# Altium footprint library Sheye-Resistor.PcbLib: 55 footprints (part 1 of 4)
Each footprint in its own frame and in the unit in brackets; x right, y up, seen from the top. Pads: shape width x height; smd on the part's side, far side on the other; paste and mask are expansions set on the pad; w line width, h text height; cw(c..) or ccw(c..) is an arc to the next point about the centre after c.
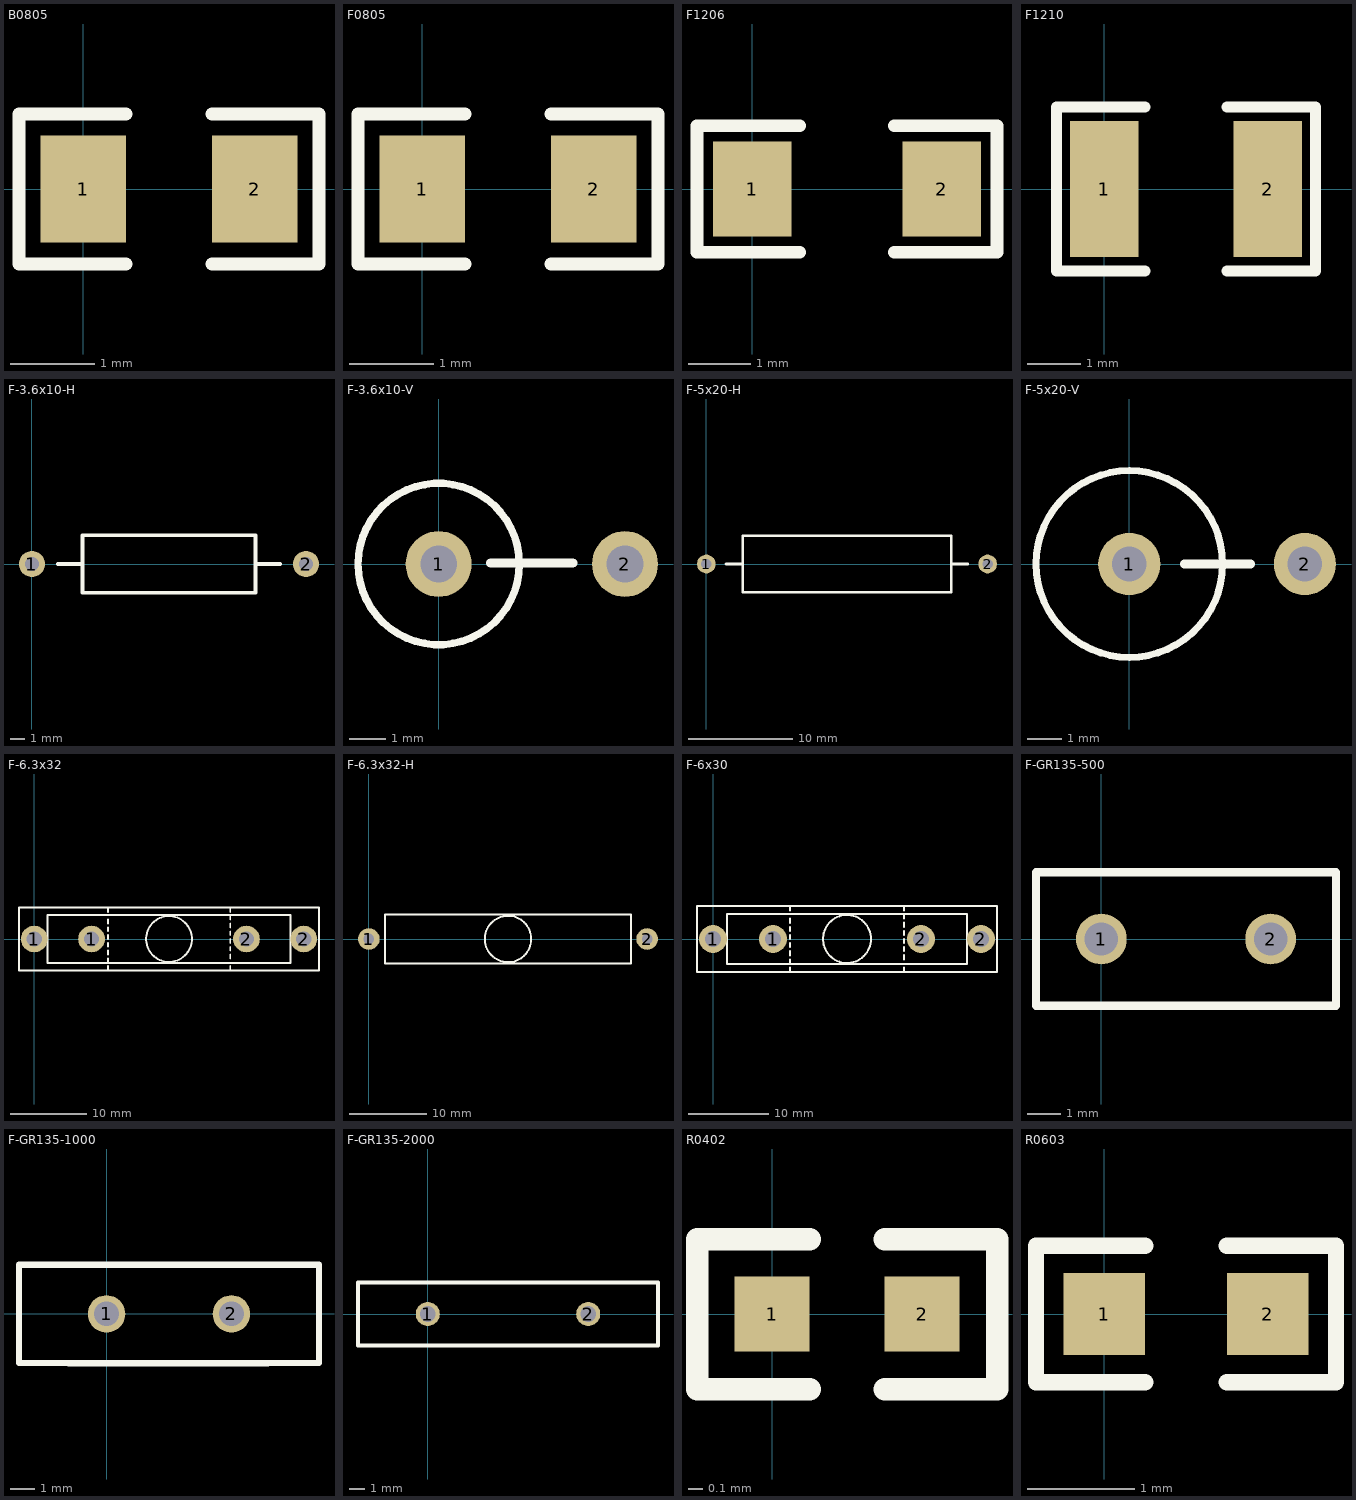
[diagram p0: the footprints below, top view; thin cyan lines are the x and y axes]

## B0805 [mil]
height 15
pads (2):
  rect 40x50 smd: 1(0,0) 2(80,0)
Top Overlay:
  lines w6: 20,-35 -30,-35 -30,35 20,35 ; 60,-35 110,-35 110,35 60,35
3D body: height 21.65, standoff 0, extent 0.63,-25 79.37,24.61

## F0805 [mil]
height 15
pads (2):
  rect 40x50 smd: 1(0,0) 2(80,0)
Top Overlay:
  lines w6: 20,-35 -30,-35 -30,35 20,35 ; 60,-35 110,-35 110,35 60,35
3D body: height 24.41, standoff -0.79, extent 0.24,-25.79 79.76,25

## F1206 [mil]
pads (2):
  rect 50x60 smd: 1(0,0) 2(120,0)
Top Overlay:
  lines w8: 30,-40 -35,-40 -35,40 30,40 ; 90,-40 155,-40 155,40 90,40
3D body: height 21.65, standoff 0, extent -2.99,-31 122.99,31.99

## F1210 [mil]
height 20
pads (2):
  rect 50x100 smd: 1(0,0) 2(120,0)
Top Overlay:
  lines w8: 30,-60 -35,-60 -35,60 30,60 ; 90,-60 155,-60 155,60 90,60
3D body: height 26.57, standoff 0, extent -2.99,-48.43 123.58,52.95

## F-3.6x10-H [mm]
pads (2):
  round 1.8 hole 1: 1(0,0) 2(19,0)
Top Overlay:
  lines w0.254: 1.803,0 3.429,0 ; 15.57,0 17.196,0 ; 3.5,-2 3.5,2 15.5,2 15.5,-2 3.5,-2
3D body: height 2, standoff 0, extent -0.324,-0.294 0.273,0.305
3D body: height 2, standoff 0, extent 18.726,-0.294 19.323,0.305
3D body: height 3.79, standoff 0.2, extent 4.449,-1.789 14.449,1.803
3D body: height 2.3, standoff 1.7, extent -0.323,-0.294 4.477,0.305
3D body: height 2.3, standoff 1.7, extent 14.416,-0.294 19.316,0.305

## F-3.6x10-V [mm]
pads (2):
  round 1.8 hole 1: 1(0,0) 2(5.08,0)
Top Overlay:
  circle w0.203: c0,0 r2.2
  lines w0.254: 1.422,0.025 3.658,0.025
3D body: height 15.2, standoff 0, extent 4.775,-0.299 5.373,0.299
3D body: height 15.5, standoff 14.9, extent -0.29,-0.305 5.38,0.294
3D body: height 15.2, standoff 12, extent -0.293,-0.299 0.305,0.299
3D body: height 12, standoff 0, extent -2.003,-1.971 1.981,2.021

## F-5x20-H [mm]
pads (2):
  round 1.8 hole 1: 1(0,0) 2(27,0)
Top Overlay:
  lines w0.254: 1.88,0 3.505,0 ; 23.571,0 25.095,0 ; 3.5,-2.7 3.5,2.7 23.5,2.7 23.5,-2.7 3.5,-2.7
3D body: height 2.5, standoff 0, extent -0.324,-0.294 0.273,0.305
3D body: height 2.5, standoff 0, extent 26.695,-0.299 27.293,0.299
3D body: height 4.48, standoff -0.5, extent 3.487,-2.501 23.487,2.489
3D body: height 2.8, standoff 2.2, extent -0.325,-0.294 3.475,0.305
3D body: height 2.8, standoff 2.2, extent 23.475,-0.294 27.275,0.305

## F-5x20-V [mm]
pads (2):
  round 1.8 hole 1: 1(0,0) 2(5.08,0)
Top Overlay:
  circle w0.203: c0,0 r2.7
  lines w0.254: 1.6,0 3.505,0
3D body: height 20, standoff 0, extent -2.487,-2.5 2.493,2.49
3D body: height 23.2, standoff 20, extent -0.305,-0.299 0.293,0.3
3D body: height 23.5, standoff 0, extent 4.783,-0.299 5.38,0.3
3D body: height 23.5, standoff 22.9, extent -0.306,-0.294 5.374,0.305

## F-6.3x32 [mm]
pads (4):
  round 3.5 hole 2: 1(0,0) 1(7.5,0) 2(27.8,0) 2(35.3,0)
Top Overlay:
  circle w0.254: c17.65,0 r3
  lines w0.254: 9.652,-4.1 9.652,-3.556 ; 9.652,-3.15 9.652,-2.54 ; 9.652,-2.032 9.652,-1.524 ; 9.652,-1.016 9.652,-0.508 ; 9.652,0 9.652,0.508 ; 9.652,1.016 9.652,1.524 ; 9.652,2.032 9.652,2.54 ; 9.652,3.556 9.652,4.1 ; 25.676,-4.1 25.676,-3.556 ; 25.676,-2.54 25.676,-2.032 ; 25.676,-1.524 25.676,-1.016 ; 25.676,-0.508 25.676,0 ; 25.676,0.508 25.676,1.016 ; 25.676,1.524 25.676,2.032 ; 25.676,2.54 25.676,3.048 ; 25.676,3.556 25.676,4.1 ; -2,-4.1 -2,4.1 37.3,4.1 37.3,-4.1 -2,-4.1 ; 1.75,-3.15 1.75,3.15 33.55,3.15 33.55,-3.15 1.75,-3.15
3D body: height 12.13, standoff 5.85, extent 1.628,-3.15 33.628,3.138
3D body: height 5.5, standoff 5, extent -2.007,-3.734 9.652,3.81
3D body: height 5, standoff 0, extent -0.406,-0.762 0.432,0.762
3D body: height 5, standoff 0, extent 7.087,-0.762 7.925,0.762
3D body: height 5, standoff 0, extent 27.407,-0.762 28.245,0.762
3D body: height 5, standoff 0, extent 34.9,-0.762 35.738,0.762
3D body: height 5.5, standoff 5, extent 25.679,-3.785 37.338,3.759
3D body: height 15, standoff 5.5, extent -2.007,3.175 9.652,3.81
3D body: height 15, standoff 5.5, extent -2.007,-3.746 9.652,-3.175
3D body: height 15, standoff 5.5, extent 25.679,3.175 37.338,3.772
3D body: height 15, standoff 5.5, extent 25.679,-3.797 37.338,-3.175

## F-6.3x32-H [mm]
pads (2):
  round 2.8 hole 1.4: 1(0,0) 2(36,0)
Top Overlay:
  circle w0.254: c18,0 r3
  lines w0.254: 2.1,-3.175 33.9,-3.175 33.9,3.175 2.1,3.175 2.1,-3.175
3D body: height 3.45, standoff 2.85, extent -0.31,-0.294 1.99,0.305
3D body: height 6.28, standoff 0, extent 2.009,-3.15 34.009,3.138
3D body: height 3.15, standoff 0, extent 35.699,-0.299 36.297,0.299
3D body: height 3.15, standoff 0, extent -0.299,-0.305 0.299,0.294
3D body: height 3.45, standoff 2.85, extent 33.98,-0.294 36.28,0.305

## F-6x30 [mm]
pads (4):
  round 3.5 hole 2: 1(0,0) 1(7.5,0) 2(26,0) 2(33.5,0)
Top Overlay:
  circle w0.254: c16.75,0 r3
  lines w0.254: 9.652,-4.1 9.652,-3.556 ; 9.652,-3.15 9.652,-2.54 ; 9.652,-2.032 9.652,-1.524 ; 9.652,-1.016 9.652,-0.508 ; 9.652,0 9.652,0.508 ; 9.652,1.016 9.652,1.524 ; 9.652,2.032 9.652,2.54 ; 9.652,3.556 9.652,4.1 ; 23.876,-4.1 23.876,-3.556 ; 23.876,-2.54 23.876,-2.032 ; 23.876,-1.524 23.876,-1.016 ; 23.876,-0.508 23.876,0 ; 23.876,0.508 23.876,1.016 ; 23.876,1.524 23.876,2.032 ; 23.876,2.54 23.876,3.048 ; 23.876,3.556 23.876,4.1 ; -2,-4.1 -2,4.1 35.5,4.1 35.5,-4.1 -2,-4.1 ; 1.75,-3.15 1.75,3.15 31.75,3.15 31.75,-3.15 1.75,-3.15
3D body: height 15, standoff 5.5, extent 23.876,-3.797 35.535,-3.175
3D body: height 15, standoff 5.5, extent 23.876,3.175 35.535,3.772
3D body: height 15, standoff 5.5, extent -2.032,-3.772 9.627,-3.2
3D body: height 15, standoff 5.5, extent -2.032,3.15 9.627,3.785
3D body: height 5.5, standoff 5, extent 23.876,-3.785 35.535,3.759
3D body: height 5, standoff 0, extent 33.096,-0.762 33.934,0.762
3D body: height 5, standoff 0, extent 25.603,-0.762 26.441,0.762
3D body: height 5, standoff 0, extent 7.061,-0.787 7.899,0.737
3D body: height 5, standoff 0, extent -0.432,-0.787 0.406,0.737
3D body: height 5.5, standoff 5, extent -2.032,-3.759 9.627,3.785
3D body: height 11.98, standoff 6, extent 1.739,-2.94 31.739,3.048

## F-GR135-500 [mil]
pads (2):
  round 60 hole 39.37: 1(0,0) 2(200,0)
Top Overlay:
  lines w10: -77.17,-78.74 -77.17,78.74 277.17,78.74 277.17,-78.74 -77.17,-78.74
3D body: height 314.96, standoff 0, extent -19.21,-19.65 20,19.65
3D body: height 570.87, standoff 118.11, extent -60,-65 261,65
3D body: height 314.96, standoff 0, extent 180,-19.65 219.21,19.65
3D body: height 314.96, standoff 0, extent -19.21,-19.65 20,19.65
3D body: height 314.96, standoff 0, extent 174.79,-19.65 214,19.65

## F-GR135-1000 [mil]
pads (2):
  round 60 hole 39.37: 1(0,0) 2(200,0)
Top Overlay:
  lines w10: -61,-79 258,-79 ; -140.16,-78.74 340.16,-78.74 340.16,78.74 -140.16,78.74 -140.16,-78.74
3D body: height 314.96, standoff 0, extent -19.21,-19.65 20,19.65
3D body: height 787.4, standoff 118.11, extent -128,-63 327,64
3D body: height 314.96, standoff 0, extent 179.79,-19.65 219,19.65

## F-GR135-2000 [mil]
pads (2):
  round 60 hole 39.37: 1(0,0) 2(400,0)
Top Overlay:
  lines w10: -174.02,-78.74 -174.02,78.74 574.02,78.74 574.02,-78.74 -174.02,-78.74
3D body: height 314.96, standoff 0, extent -19.21,-19.65 20,19.65
3D body: height 984.25, standoff 157.48, extent -160,-65 560,65
3D body: height 314.96, standoff 0, extent 379.79,-19.65 419,19.65

## R0402 [mil]
height 10
pads (2):
  rect 20x20 smd: 1(0,0) 2(40,0)
Top Overlay:
  lines w6: 10,-20 -20,-20 -20,20 10,20 ; 30,-20 60,-20 60,20 30,20
3D body: height 13.78, standoff 0, extent 0.32,-10 39.69,9.69

## R0603 [mil]
height 12
pads (2):
  rect 30x30 smd: 1(0,0) 2(60,0)
Top Overlay:
  lines w6: 15,-25 -25,-25 -25,25 15,25 ; 45,-25 85,-25 85,25 45,25
3D body: height 17.72, standoff 0, extent -0.5,-16 62.5,15.5